# Altium footprint library TH_LED_Series_PCB_Library_ARAF.PcbLib: 1 footprints
Each footprint in its own frame and in the unit in brackets; x right, y up, seen from the top. Pads: shape width x height; smd on the part's side, far side on the other; paste and mask are expansions set on the pad; w line width, h text height; cw(c..) or ccw(c..) is an arc to the next point about the centre after c.
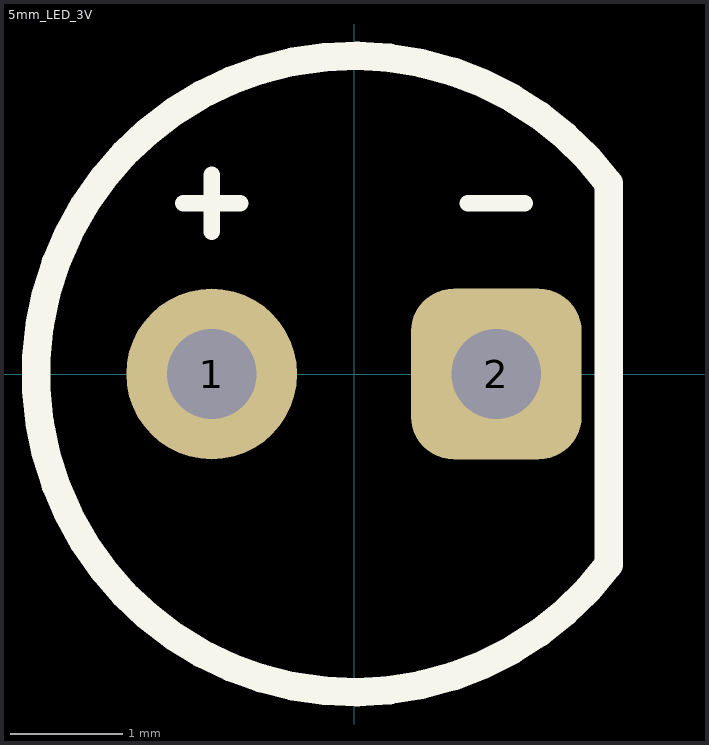
[diagram p0: the footprint, top view; thin cyan lines are the x and y axes]

## 5mm_LED_3V [mil]
pads (2):
  round 60 hole 31.5: 1(-50,0)
  rrect50% 60x60 hole 31.5: 2(50,0)
Top Overlay:
  lines w5.91: -60,60 -40,60 ; -50,50 -50,70 ; 40,60 60,60
  lines w10: 89.44,-67.08 cw(c0,0) 89.44,67.08 89.44,-67.08
3D body "5mm_RED_LED_3V.STEP": height 342.52, standoff -114.17, extent -116.14,-116.14 98.43,116.14